# EAGLE library part IRS2101 (library JCM)
Gate Driver Can be used to drive dual N-channel MOSFET devices fo motor control applications
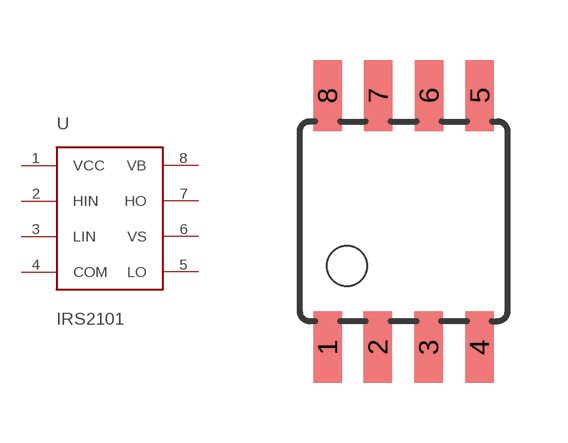
[diagram p12: symbol with the pads of SOIC8; footprint SOIC8]

Designator prefix -

## IRS2101 (PARTNO: IRF2101)  [SOIC8]
1  VCC  pwr
2  HIN  in
3  LIN  in
4  COM
5  LO
6  VS  out
7  HO  out
8  VB

## Footprint SOIC8 (pad centres in mm)
Wide Plastic Gull Wing Small Outline Package
smd 0.711 x 1.778: 1 -1.905,-3.15; 2 -0.645,-3.15; 3 0.625,-3.15; 4 1.895,-3.15; 5 1.905,3.15; 6 0.635,3.15; 7 -0.635,3.15; 8 -1.905,3.15